# EAGLE library part LTC4100 (library MAX9812)
Linear's LTC4100 Smart Battery Charger Controller Description: The LTC®4100 Smart Battery Charger is a single chip charging solution that dramatically simplifies construction of an SBS compliant system. The LTC4100 implements a Level 2 charger function whereby the charger can be programmed by the battery or by the host. A SafetySignal on the battery being charged is monitored for temperature, connectivity and battery type information. The SMBus interface remains alive when the AC power adapter is removed and responds to all SMBus activity directed to it, including SafetySignal status (via the ChargerStatus command). The charger also provides an interrupt to the host whenever a status change is detected (e.g., battery removal, AC adapter connection). Charging current and voltage are restricted to chemistryspecific limits for improved system safety and reliability. Limits are programmable by two external resistors. Additionally, the maximum average current from the AC adapter is programmable to avoid overloading the adapter when simultaneously supplying load current and charging current. When supplying system load current, charging current is automatically reduced to prevent adapter overload. Features: Single Chip Smart Battery Charger Controller 100% Compliant (Rev. 1.1) SMBus Support Allows for Operation with or without Host SMBus Accelerator Improves SMBus Timing Wide Output Voltage Range: 3.5V to 26V Hardware Interrupt and SMBAlert Response Eliminate Interrupt Polling High Efficiency Synchronous Buck Charger 0.5V Dropout Voltage; Maximum Duty Cycle > 98% AC Adapter Current Limit Maximizes Charge Rate ±0.8% Voltage Accuracy; ±4% Current Accuracy Up to 4A Charging Current Capability 10-Bit DAC for Charge Current Programming 11-Bit DAC for Charger Voltage Programming User-Selectable Overvoltage and Overcurrent Limits High Noise Immunity SafetySignal Sensor Available in a 24-Pin SSOP Package Applications: Portable Instruments and Computers Data Storage Systems and Battery Backup Servers Please send any comments to: messi@users.sourceforge.net
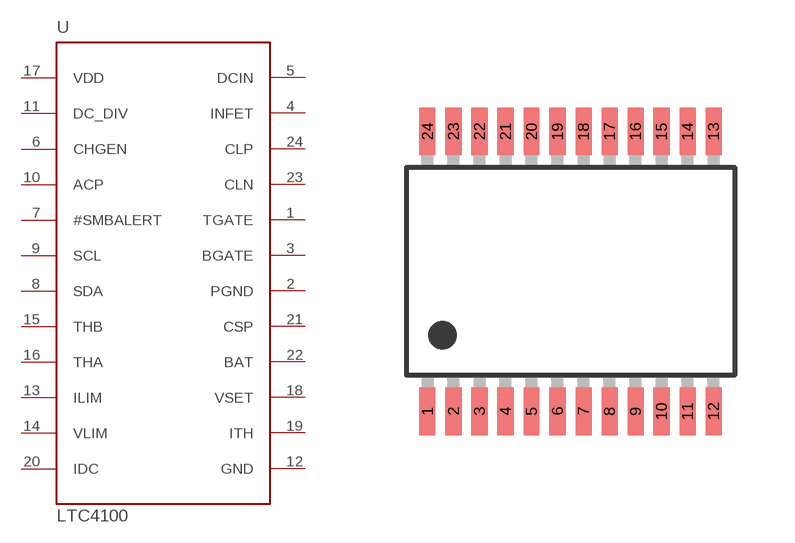
[diagram p57: symbol with the pads of SSOP24; footprint SSOP24]

Designator prefix U

## LTC4100  [SSOP24]
1  TGATE  out
2  PGND  pwr
3  BGATE  out
4  INFET  out
5  DCIN  in
6  CHGEN  out
7  #SMBALERT  out
8  SDA
9  SCL
10  ACP  out
11  DC_DIV  in
12  GND  pwr
13  ILIM  in
14  VLIM  in
15  THB  out
16  THA  out
17  VDD  pwr
18  VSET  in
19  ITH  in
20  IDC  in
21  CSP  in
22  BAT  in
23  CLN  in
24  CLP  in

## Footprint SSOP24 (pad centres in mm)
SSOP 24 E.g: LTC4100
smd 0.4 x 1.2: 1 -3.575,-3.5; 2 -2.925,-3.5; 3 -2.275,-3.5; 4 -1.625,-3.5; 5 -0.975,-3.5; 6 -0.325,-3.5; 7 0.325,-3.5; 8 0.975,-3.5; 9 1.625,-3.5; 10 2.275,-3.5; 11 2.925,-3.5; 12 3.575,-3.5; 13 3.575,3.5; 14 2.925,3.5; 15 2.275,3.5; 16 1.625,3.5; 17 0.975,3.5; 18 0.325,3.5; 19 -0.325,3.5; 20 -0.975,3.5; 21 -1.625,3.5; 22 -2.275,3.5; 23 -2.925,3.5; 24 -3.575,3.5